# Altium footprint library MP008513.PcbLib: 1 footprints
Each footprint in its own frame and in the unit in brackets; x right, y up, seen from the top. Pads: shape width x height; smd on the part's side, far side on the other; paste and mask are expansions set on the pad; w line width, h text height; cw(c..) or ccw(c..) is an arc to the next point about the centre after c.
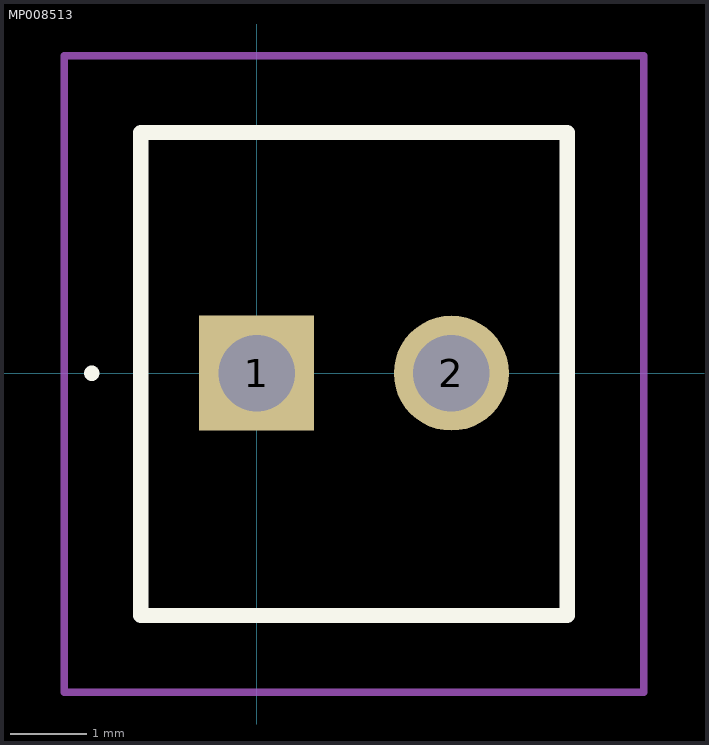
[diagram p0: the footprint, top view; thin cyan lines are the x and y axes]

## MP008513 [mm]
pads (2):
  rect 1.5x1.5 hole 1: 1(0,0)
  round 1.5 hole 1: 2(2.54,0)
Top Overlay:
  lines w0.1: -2.2,0 -2.2,0 ; -2.2,0 ccw(c-2.15,0) -2.1,0 ; -2.2,0 cw(c-2.15,0) -2.1,0 ; -2.2,0 -2.2,0 ; -2.2,0 ccw(c-2.15,0) -2.1,0 ; -2.1,0 -2.1,0
  lines w0.2: -1.4,-3.16 -1.51,-3.16 ; -1.51,-3.16 4.05,-3.16 4.05,3.14 -1.51,3.14 -1.51,-3.16
Mechanical 15:
  lines w0.1: -1.51,-3.16 4.05,-3.16 4.05,3.14 -1.51,3.14 -1.51,-3.16
Mechanical 20:
  lines w0.1: -2.51,-4.16 5.05,-4.16 5.05,4.14 -2.51,4.14 -2.51,-4.16